# Altium schematic symbol library M_SLOT_PCB.Schlib: 1 symbol
Pins are listed as number, name and electrical type; pins without a type are passive.

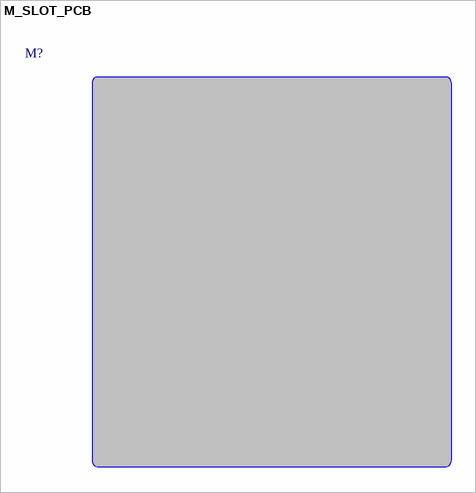
[diagram p0: symbol M_SLOT_PCB]

## M_SLOT_PCB
designator M?  (mechanical)